# Altium schematic symbol library Zener_Diode.SchLib: 1 symbol
Pins are listed as number, name and electrical type; pins without a type are passive.

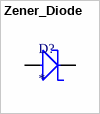
[diagram p0: symbol Zener_Diode]

## Zener_Diode
designator D?
pins: A, C 2